# EAGLE library part AMPMODU_SHROUDED_MALE_HEADER_0.1 (library TE)
AMPMODU Standard Profile Headers - Shrouded, Double-Row, .100 x .100 Centerline Datasheet: http://datasheet.octopart.com/5-103166-2-Tyco-Electronics-datasheet-11077762.pdf/a>
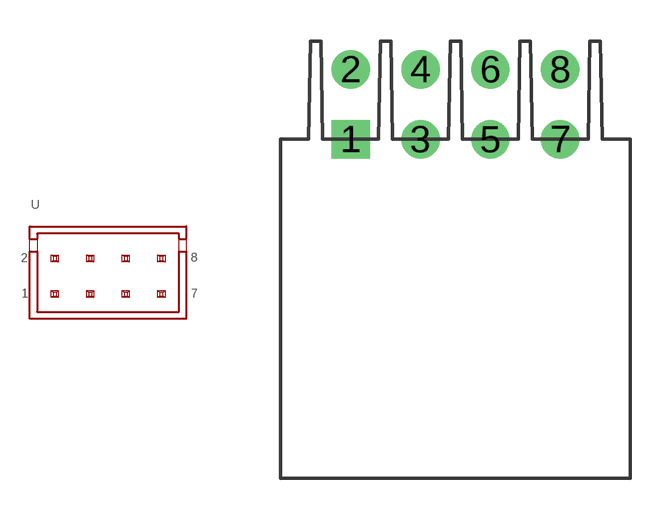
[diagram p4: symbol with the pads of PIN_HEADER_RA_5-103166-2; footprint PIN_HEADER_RA_5-103166-2]

Designator prefix -

## AMPMODU_SHROUDED_MALE_HEADER_0.1 (PARTNO: 5-103166-2)  [PIN_HEADER_RA_5-103166-2]
1  1
2  2
3  3
4  4
5  5
6  6
7  7
8  8

## Footprint PIN_HEADER_RA_5-103166-2 (pad centres in mm)
drill 0.889 square: 1 -3.81,-1.27
drill 0.889 round: 2 -3.81,1.27; 3 -1.27,-1.27; 4 -1.27,1.27; 5 1.27,-1.27; 6 1.27,1.27; 7 3.81,-1.27; 8 3.81,1.27